# EAGLE library part SBH11-NBPC-D13 (library con-sullins)
HEADER - Vertical, Shrouded
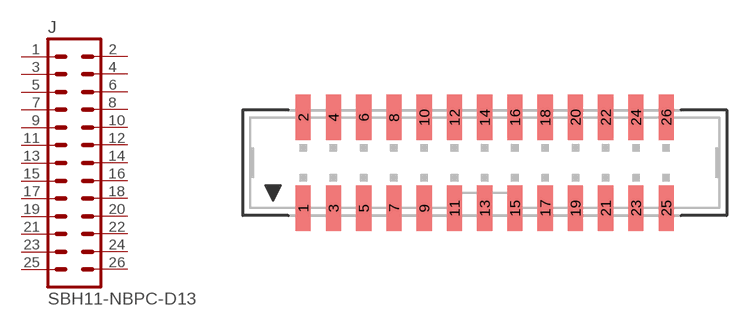
[diagram p26: symbol with the pads of SBH11-NBPC-D13; footprint SBH11-NBPC-D13]

Designator prefix J

## SBH11-NBPC-D13  [SBH11-NBPC-D13]
1  1  pas
2  2  pas
3  3  pas
4  4  pas
5  5  pas
6  6  pas
7  7  pas
8  8  pas
9  9  pas
10  10  pas
11  11  pas
12  12  pas
13  13  pas
14  14  pas
15  15  pas
16  16  pas
17  17  pas
18  18  pas
19  19  pas
20  20  pas
21  21  pas
22  22  pas
23  23  pas
24  24  pas
25  25  pas
26  26  pas

## Footprint SBH11-NBPC-D13 (pad centres in mm)
SMD HEADER - 0.1", Shrouded, Vertical
smd 1.27 x 3.81: 1 -15.24,-3.81; 2 -15.24,3.81; 3 -12.7,-3.81; 4 -12.7,3.81; 5 -10.16,-3.81; 6 -10.16,3.81; 7 -7.62,-3.81; 8 -7.62,3.81; 9 -5.08,-3.81; 10 -5.08,3.81; 11 -2.54,-3.81; 12 -2.54,3.81; 13 0,-3.81; 14 0,3.81; 15 2.54,-3.81; 16 2.54,3.81; 17 5.08,-3.81; 18 5.08,3.81; 19 7.62,-3.81; 20 7.62,3.81; 21 10.16,-3.81; 22 10.16,3.81; 23 12.7,-3.81; 24 12.7,3.81; 25 15.24,-3.81; 26 15.24,3.81